# Altium integrated library TI_Logic_Specialty_Logic.IntLib: 2504 symbols (part 73 of 81)
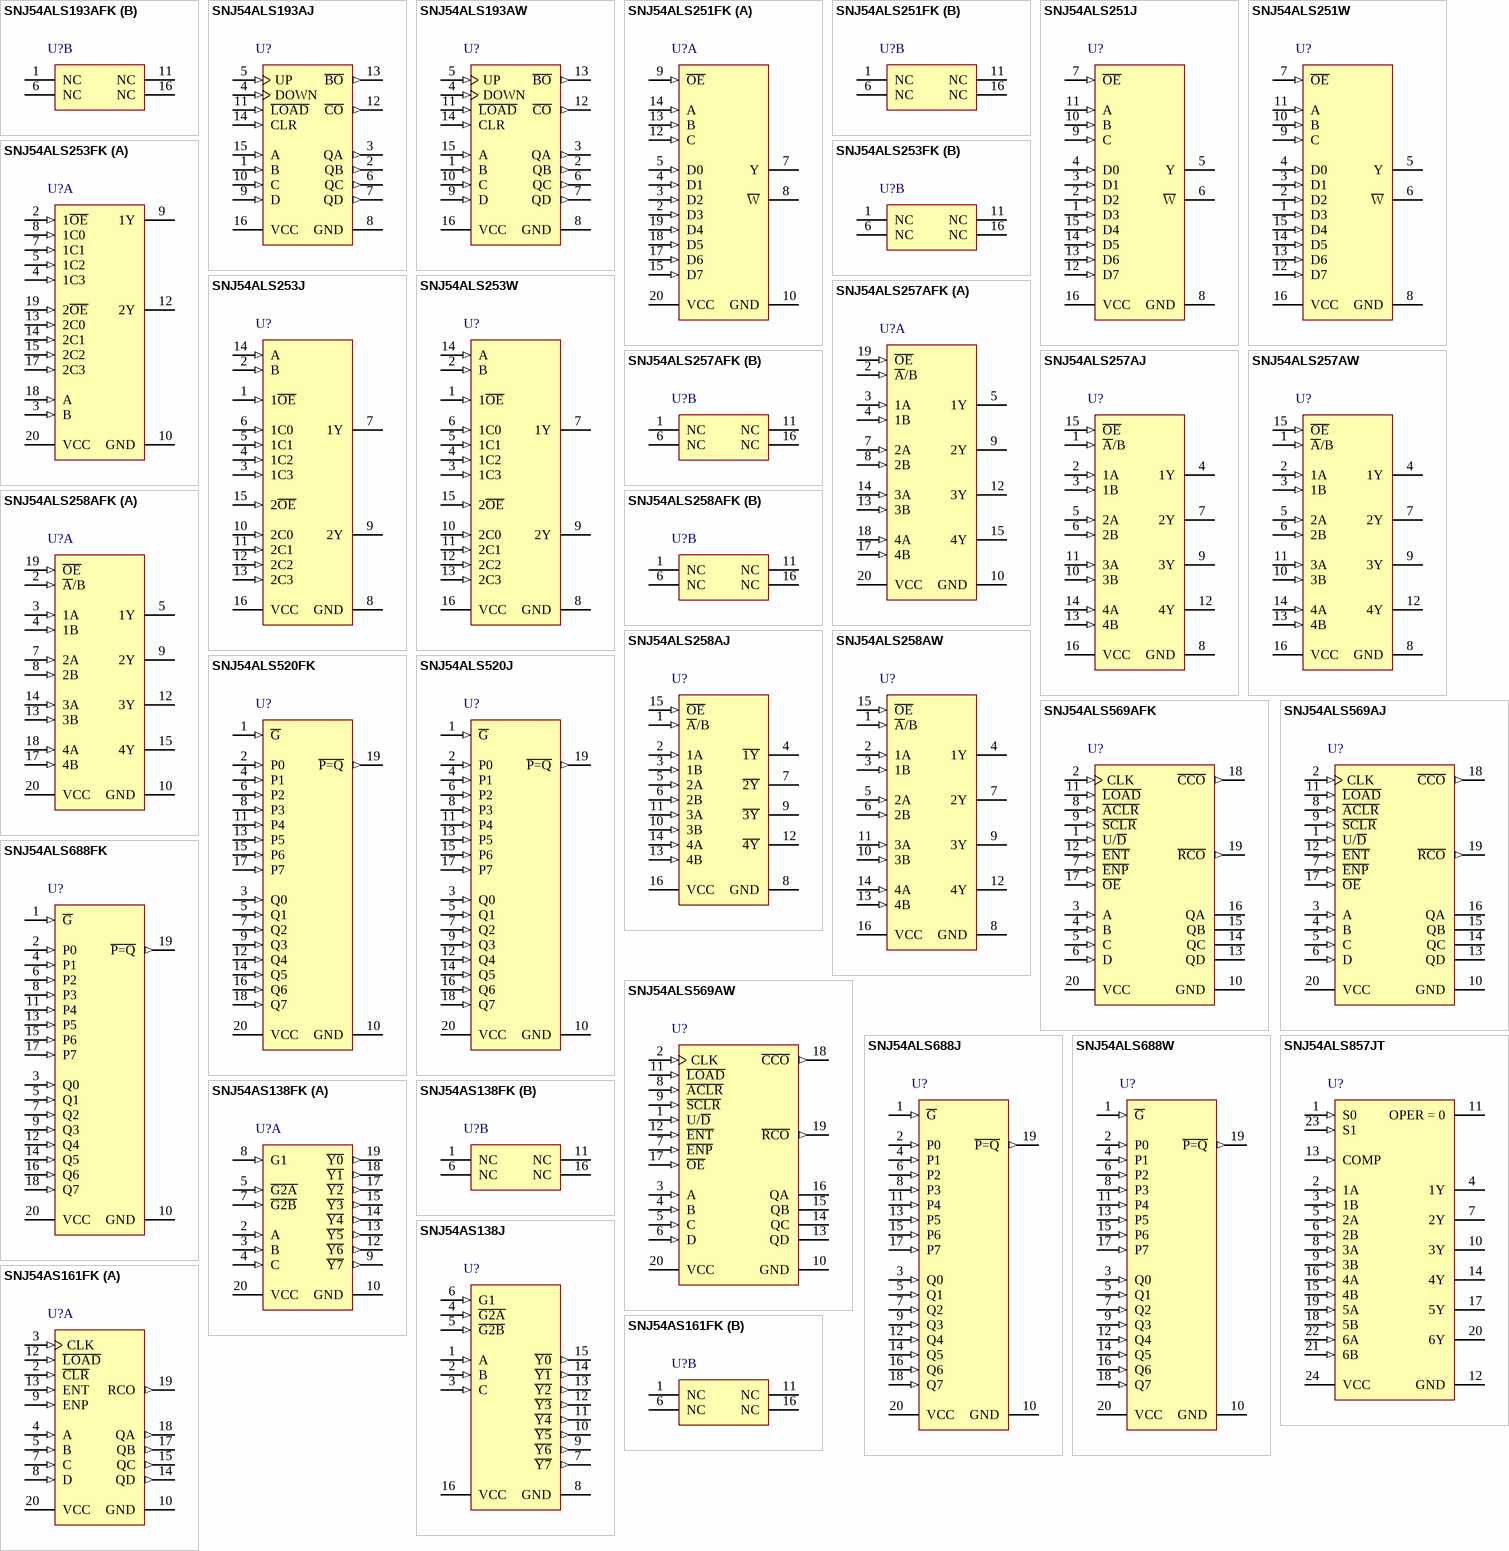
[diagram p176: symbols SNJ54ALS193AFK to SNJ54AS161FK]

## SNJ54AS161FK
designator U?
Synchronous 4-Bit Binary Counters, FK0020A, TUBE; Generic Part Number: SN54AS161; Manufacturer: Texas Instruments; PartNumber: SNJ54AS161FK; VCC(Min)(V): 4.5; VCC(Max)(V): 5.5; Inputs: 1; ICC @ Nom Voltage(Max)(mA): 53; Bits(#): 4; F @ Nom Voltage(Max)(Mhz): 125; Rating: Military; Technology Family: AS; Output Drive (IOL/IOH)(Max)(mA): 20/-2; tpd @ Nom Voltage(Max)(ns): 16.5; DatasheetVersion: SDAS276A; PackageReference: FK0020A; Function: Counter; Operating Temperature Range(C): -55 to 125; Type: Binary; Code_JEDEC: MS-004; ComponentLink1Description: Manufacturer URL; ComponentLink1URL: http://www.ti.com/; ComponentLink2Description: Datasheet; ComponentLink2URL: http://www.ti.com/lit/ds/symlink/sn54as161.pdf; ComponentLink3Description: Package Specification; ComponentLink3URL: http://www.ti.com/lit/ml/mlcc006d/mlcc006d.pdf
footprint FK0020A_N (LCC, 20-Leads, Body 8.9x8.9mm, Pitch 1.27mm, IPC Medium Density)
footprint FK0020A_M (LCC, 20-Leads, Body 8.9x8.9mm, Pitch 1.27mm, IPC Low Density)
footprint FK0020A_L (LCC, 20-Leads, Body 8.9x8.9mm, Pitch 1.27mm, IPC High Density)
part A pins: 2 ~{CLR} (in), 3 CLK (in), 4 A (in), 5 B (in), 7 C (in), 8 D (in), 9 ENP (in), 10 GND (power), 12 ~{LOAD} (in), 13 ENT (in), 14 QD (out), 15 QC (out), 17 QB (out), 18 QA (out), 19 RCO (out), 20 VCC (power)
part B pins: 1 NC, 6 NC, 11 NC, 16 NC

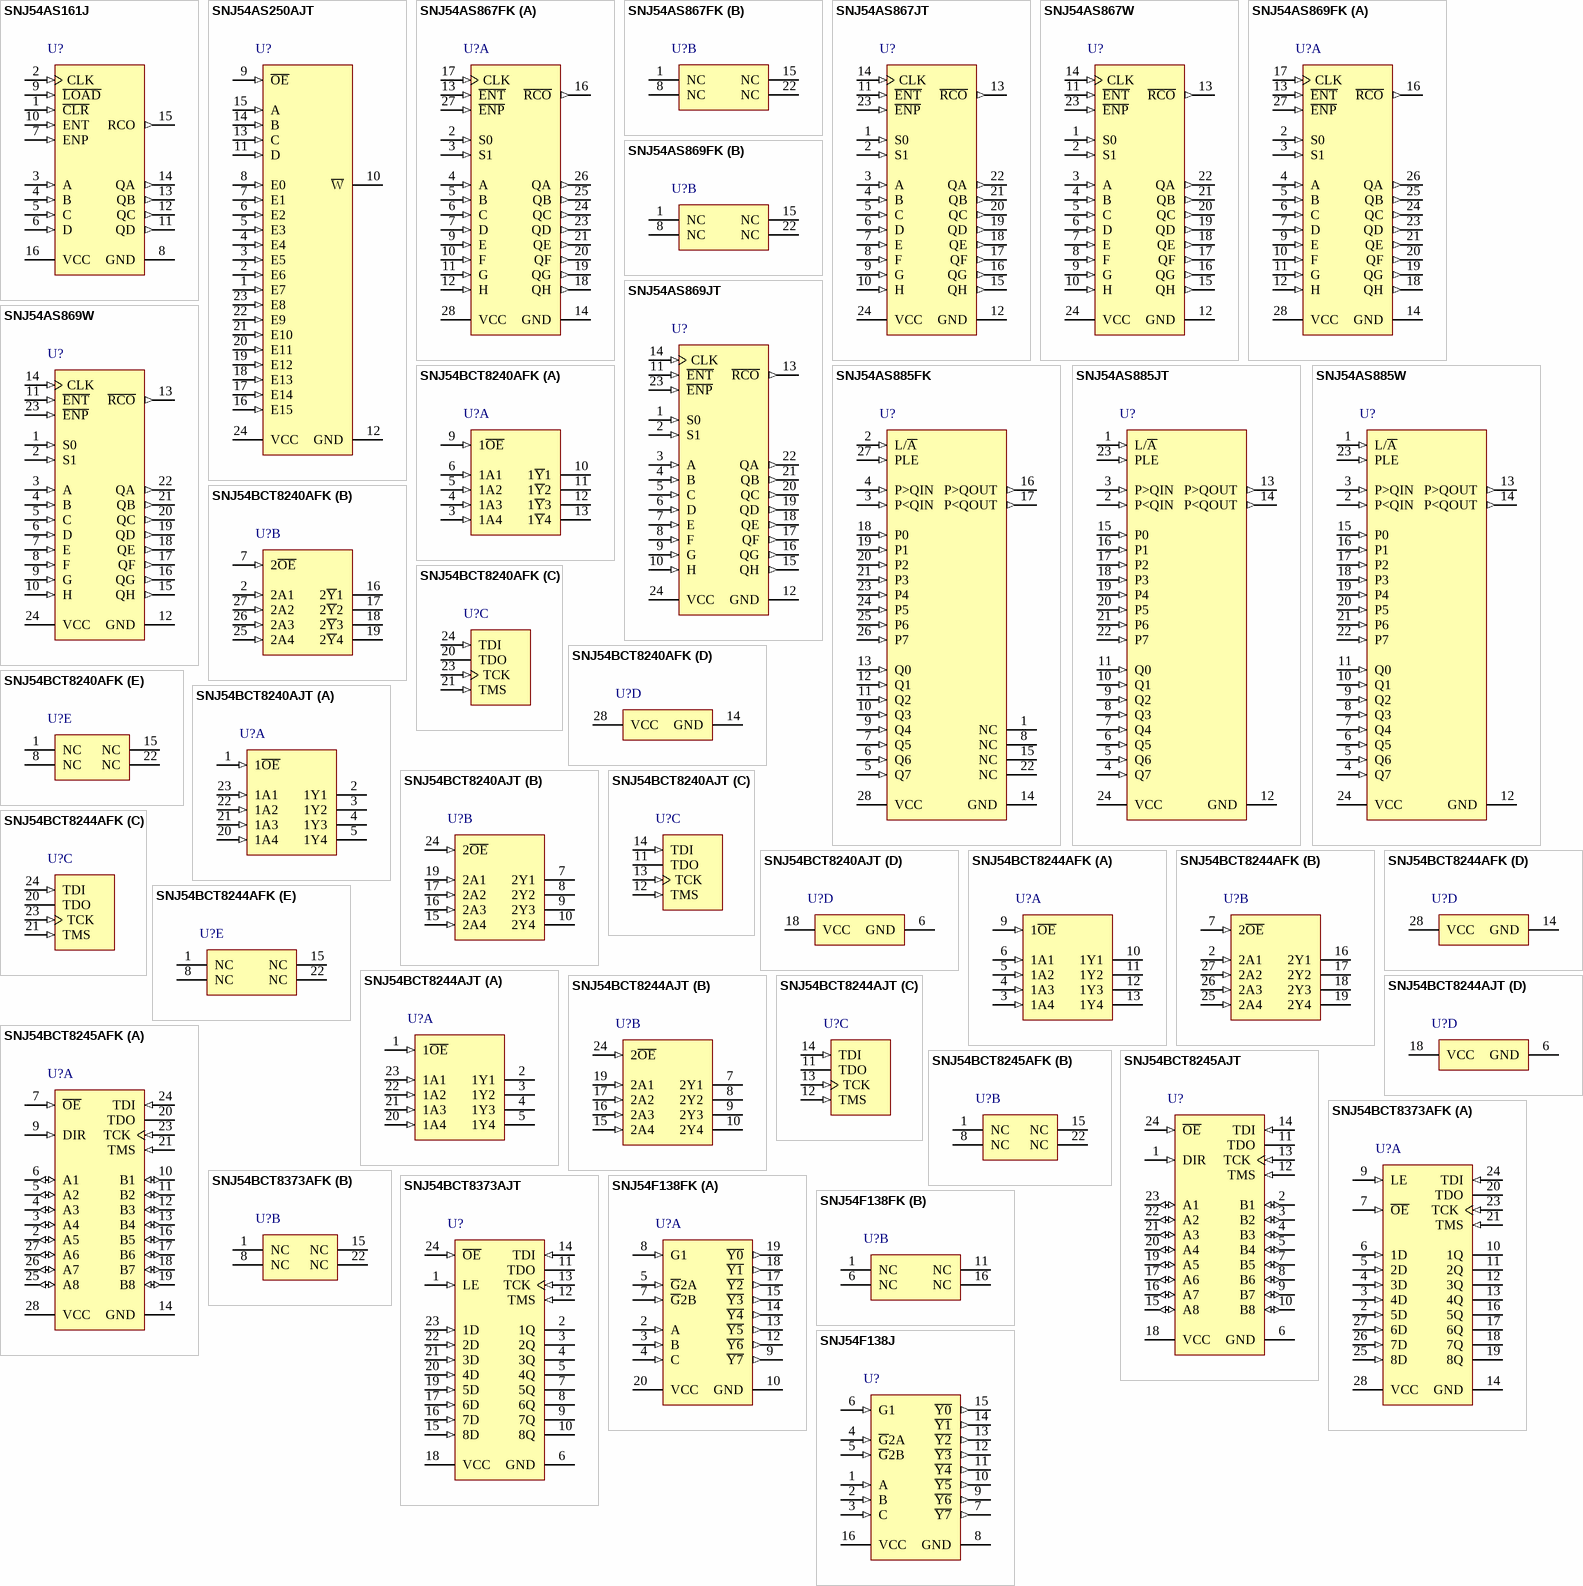
[diagram p90: symbols SNJ54AS161J to SNJ54F138J]

## SNJ54AS161J
designator U?
Synchronous 4-Bit Binary Counters, J0016A, TUBE; Generic Part Number: SN54AS161; Manufacturer: Texas Instruments; PartNumber: SNJ54AS161J; VCC(Min)(V): 4.5; VCC(Max)(V): 5.5; Inputs: 1; ICC @ Nom Voltage(Max)(mA): 53; Bits(#): 4; F @ Nom Voltage(Max)(Mhz): 125; Rating: Military; Technology Family: AS; Output Drive (IOL/IOH)(Max)(mA): 20/-2; tpd @ Nom Voltage(Max)(ns): 16.5; DatasheetVersion: SDAS276A; PackageReference: J0016A; Function: Counter; Operating Temperature Range(C): -55 to 125; Type: Binary; ComponentLink1Description: Manufacturer URL; ComponentLink1URL: http://www.ti.com/; ComponentLink2Description: Datasheet; ComponentLink2URL: http://www.ti.com/lit/ds/symlink/sn54as161.pdf; ComponentLink3Description: Package Specification; ComponentLink3URL: http://www.ti.com/lit/ml/mcer002d/mcer002d.pdf
footprint J0016A (DIP, 16-Leads, Body 21.35x7.2mm, Pitch 2.54mm)
pins: 1 ~{CLR} (in), 2 CLK (in), 3 A (in), 4 B (in), 5 C (in), 6 D (in), 7 ENP (in), 8 GND (power), 9 ~{LOAD} (in), 10 ENT (in), 11 QD (out), 12 QC (out), 13 QB (out), 14 QA (out), 15 RCO (out), 16 VCC (power)

## SNJ54AS250AJT
designator U?
1-Of-16 Data Generators/Multiplexers With 3-State Outputs, JT0024A, TUBE; Generic Part Number: SN54AS250A; Manufacturer: Texas Instruments; PartNumber: SNJ54AS250AJT; Rating: Military; Technology Family: AS; Schmitt Trigger: No; DatasheetVersion: SDAS137A; PackageReference: JT0024A; Operating Temperature Range(C): -55 to 125; Code_JEDEC: MO-058 AA; ComponentLink1Description: Manufacturer URL; ComponentLink1URL: http://www.ti.com/; ComponentLink2Description: Datasheet; ComponentLink2URL: http://www.ti.com/lit/ds/symlink/sn54as250a.pdf; ComponentLink3Description: Package Specification; ComponentLink3URL: http://www.ti.com/lit/ml/mcer004a/mcer004a.pdf
footprint JT0024A (DIP, 24-Leads, Body 7.2x32.5mm, Pitch 2.54mm)
pins: 1 E7 (in), 2 E6 (in), 3 E5 (in), 4 E4 (in), 5 E3 (in), 6 E2 (in), 7 E1 (in), 8 E0 (in), 9 ~{OE} (in), 10 ~{W} (hiz), 11 D (in), 12 GND (power), 13 C (in), 14 B (in), 15 A (in), 16 E15 (in), 17 E14 (in), 18 E13 (in), 19 E12 (in), 20 E11 (in), 21 E10 (in), 22 E9 (in), 23 E8 (in), 24 VCC (power)

## SNJ54AS867FK
designator U?
Synchronous 8-Bit Up/Down Counters, FK0028A, TUBE; Generic Part Number: SN54AS867; Manufacturer: Texas Instruments; PartNumber: SNJ54AS867FK; VCC(Min)(V): 4.5; VCC(Max)(V): 5.5; Inputs: 1; ICC @ Nom Voltage(Max)(mA): 195; Bits(#): 8; F @ Nom Voltage(Max)(Mhz): 125; Rating: Military; Technology Family: AS; Output Drive (IOL/IOH)(Max)(mA): 20/-2; tpd @ Nom Voltage(Max)(ns): 22; DatasheetVersion: SDAS115C; PackageReference: FK0028A; Function: Counter; Operating Temperature Range(C): -55 to 125; Type: Binary; Code_JEDEC: MS-004; ComponentLink1Description: Manufacturer URL; ComponentLink1URL: http://www.ti.com/; ComponentLink2Description: Datasheet; ComponentLink2URL: http://www.ti.com/lit/ds/symlink/sn54as867.pdf; ComponentLink3Description: Package Specification; ComponentLink3URL: http://www.ti.com/lit/ml/mlcc006d/mlcc006d.pdf
footprint FK0028A_N (LCC, 28-Leads, Body 11.43x11.43mm, Pitch 1.27mm, IPC Medium Density)
footprint FK0028A_M (LCC, 28-Leads, Body 11.43x11.43mm, Pitch 1.27mm, IPC Low Density)
footprint FK0028A_L (LCC, 28-Leads, Body 11.43x11.43mm, Pitch 1.27mm, IPC High Density)
part A pins: 2 S0 (in), 3 S1 (in), 4 A (in), 5 B (in), 6 C (in), 7 D (in), 9 E (in), 10 F (in), 11 G (in), 12 H (in), 13 ~{ENT} (in), 14 GND (power), 16 ~{RCO} (out), 17 CLK (in), 18 QH (out), 19 QG (out), 20 QF (out), 21 QE (out), 23 QD (out), 24 QC (out), 25 QB (out), 26 QA (out), 27 ~{ENP} (in), 28 VCC (power)
part B pins: 1 NC, 8 NC, 15 NC, 22 NC

## SNJ54AS867JT
designator U?
Synchronous 8-Bit Up/Down Counters, JT0024A, TUBE; Generic Part Number: SN54AS867; Manufacturer: Texas Instruments; PartNumber: SNJ54AS867JT; VCC(Min)(V): 4.5; VCC(Max)(V): 5.5; Inputs: 1; ICC @ Nom Voltage(Max)(mA): 195; Bits(#): 8; F @ Nom Voltage(Max)(Mhz): 125; Rating: Military; Technology Family: AS; Output Drive (IOL/IOH)(Max)(mA): 20/-2; tpd @ Nom Voltage(Max)(ns): 22; DatasheetVersion: SDAS115C; PackageReference: JT0024A; Function: Counter; Operating Temperature Range(C): -55 to 125; Type: Binary; Code_JEDEC: MO-058 AA; ComponentLink1Description: Manufacturer URL; ComponentLink1URL: http://www.ti.com/; ComponentLink2Description: Datasheet; ComponentLink2URL: http://www.ti.com/lit/ds/symlink/sn54as867.pdf; ComponentLink3Description: Package Specification; ComponentLink3URL: http://www.ti.com/lit/ml/mcer004a/mcer004a.pdf
footprint JT0024A (DIP, 24-Leads, Body 7.2x32.5mm, Pitch 2.54mm)
pins: 1 S0 (in), 2 S1 (in), 3 A (in), 4 B (in), 5 C (in), 6 D (in), 7 E (in), 8 F (in), 9 G (in), 10 H (in), 11 ~{ENT} (in), 12 GND (power), 13 ~{RCO} (out), 14 CLK (in), 15 QH (out), 16 QG (out), 17 QF (out), 18 QE (out), 19 QD (out), 20 QC (out), 21 QB (out), 22 QA (out), 23 ~{ENP} (in), 24 VCC (power)

## SNJ54AS867W
designator U?
Synchronous 8-Bit Up/Down Counters, W0024A, TUBE; Generic Part Number: SN54AS867; Manufacturer: Texas Instruments; PartNumber: SNJ54AS867W; VCC(Min)(V): 4.5; VCC(Max)(V): 5.5; Inputs: 1; ICC @ Nom Voltage(Max)(mA): 195; Bits(#): 8; F @ Nom Voltage(Max)(Mhz): 125; Rating: Military; Technology Family: AS; Output Drive (IOL/IOH)(Max)(mA): 20/-2; tpd @ Nom Voltage(Max)(ns): 22; DatasheetVersion: SDAS115C; PackageReference: W0024A; Function: Counter; Operating Temperature Range(C): -55 to 125; Type: Binary; ComponentLink1Description: Manufacturer URL; ComponentLink1URL: http://www.ti.com/; ComponentLink2Description: Datasheet; ComponentLink2URL: http://www.ti.com/lit/ds/symlink/sn54as867.pdf; ComponentLink3Description: Package Specification; ComponentLink3URL: http://www.ti.com/lit/ml/mcfp006d/mcfp006d.pdf
footprint W0024A_N (CFP, 24-Leads, Body 16.26x9.53mm, Pitch 1.27mm, IPC Medium Density)
footprint W0024A_M (CFP, 24-Leads, Body 16.26x9.53mm, Pitch 1.27mm, IPC Low Density)
footprint W0024A_L (CFP, 24-Leads, Body 16.26x9.53mm, Pitch 1.27mm, IPC High Density)
pins: 1 S0 (in), 2 S1 (in), 3 A (in), 4 B (in), 5 C (in), 6 D (in), 7 E (in), 8 F (in), 9 G (in), 10 H (in), 11 ~{ENT} (in), 12 GND (power), 13 ~{RCO} (out), 14 CLK (in), 15 QH (out), 16 QG (out), 17 QF (out), 18 QE (out), 19 QD (out), 20 QC (out), 21 QB (out), 22 QA (out), 23 ~{ENP} (in), 24 VCC (power)

## SNJ54AS869FK
designator U?
Synchronous 8-Bit Up/Down Counters, FK0028A, TUBE; Generic Part Number: SN54AS869; Manufacturer: Texas Instruments; PartNumber: SNJ54AS869FK; VCC(Min)(V): 4.5; VCC(Max)(V): 5.5; Inputs: 1; ICC @ Nom Voltage(Max)(mA): 195; Bits(#): 8; F @ Nom Voltage(Max)(Mhz): 125; Rating: Military; Technology Family: AS; Output Drive (IOL/IOH)(Max)(mA): 20/-2; tpd @ Nom Voltage(Max)(ns): 35; DatasheetVersion: SDAS115C; PackageReference: FK0028A; Function: Counter; Operating Temperature Range(C): -55 to 125; Type: Binary; Code_JEDEC: MS-004; ComponentLink1Description: Manufacturer URL; ComponentLink1URL: http://www.ti.com/; ComponentLink2Description: Datasheet; ComponentLink2URL: http://www.ti.com/lit/ds/symlink/sn54as869.pdf; ComponentLink3Description: Package Specification; ComponentLink3URL: http://www.ti.com/lit/ml/mlcc006d/mlcc006d.pdf
footprint FK0028A_N (LCC, 28-Leads, Body 11.43x11.43mm, Pitch 1.27mm, IPC Medium Density)
footprint FK0028A_M (LCC, 28-Leads, Body 11.43x11.43mm, Pitch 1.27mm, IPC Low Density)
footprint FK0028A_L (LCC, 28-Leads, Body 11.43x11.43mm, Pitch 1.27mm, IPC High Density)
part A pins: 2 S0 (in), 3 S1 (in), 4 A (in), 5 B (in), 6 C (in), 7 D (in), 9 E (in), 10 F (in), 11 G (in), 12 H (in), 13 ~{ENT} (in), 14 GND (power), 16 ~{RCO} (out), 17 CLK (in), 18 QH (out), 19 QG (out), 20 QF (out), 21 QE (out), 23 QD (out), 24 QC (out), 25 QB (out), 26 QA (out), 27 ~{ENP} (in), 28 VCC (power)
part B pins: 1 NC, 8 NC, 15 NC, 22 NC

## SNJ54AS869JT
designator U?
Synchronous 8-Bit Up/Down Counters, JT0024A, TUBE; Generic Part Number: SN54AS869; Manufacturer: Texas Instruments; PartNumber: SNJ54AS869JT; VCC(Min)(V): 4.5; VCC(Max)(V): 5.5; Inputs: 1; ICC @ Nom Voltage(Max)(mA): 195; Bits(#): 8; F @ Nom Voltage(Max)(Mhz): 125; Rating: Military; Technology Family: AS; Output Drive (IOL/IOH)(Max)(mA): 20/-2; tpd @ Nom Voltage(Max)(ns): 35; DatasheetVersion: SDAS115C; PackageReference: JT0024A; Function: Counter; Operating Temperature Range(C): -55 to 125; Type: Binary; Code_JEDEC: MO-058 AA; ComponentLink1Description: Manufacturer URL; ComponentLink1URL: http://www.ti.com/; ComponentLink2Description: Datasheet; ComponentLink2URL: http://www.ti.com/lit/ds/symlink/sn54as869.pdf; ComponentLink3Description: Package Specification; ComponentLink3URL: http://www.ti.com/lit/ml/mcer004a/mcer004a.pdf
footprint JT0024A (DIP, 24-Leads, Body 7.2x32.5mm, Pitch 2.54mm)
pins: 1 S0 (in), 2 S1 (in), 3 A (in), 4 B (in), 5 C (in), 6 D (in), 7 E (in), 8 F (in), 9 G (in), 10 H (in), 11 ~{ENT} (in), 12 GND (power), 13 ~{RCO} (out), 14 CLK (in), 15 QH (out), 16 QG (out), 17 QF (out), 18 QE (out), 19 QD (out), 20 QC (out), 21 QB (out), 22 QA (out), 23 ~{ENP} (in), 24 VCC (power)

## SNJ54AS869W
designator U?
Synchronous 8-Bit Up/Down Counters, W0024A, TUBE; Generic Part Number: SN54AS869; Manufacturer: Texas Instruments; PartNumber: SNJ54AS869W; VCC(Min)(V): 4.5; VCC(Max)(V): 5.5; Inputs: 1; ICC @ Nom Voltage(Max)(mA): 195; Bits(#): 8; F @ Nom Voltage(Max)(Mhz): 125; Rating: Military; Technology Family: AS; Output Drive (IOL/IOH)(Max)(mA): 20/-2; tpd @ Nom Voltage(Max)(ns): 35; DatasheetVersion: SDAS115C; PackageReference: W0024A; Function: Counter; Operating Temperature Range(C): -55 to 125; Type: Binary; ComponentLink1Description: Manufacturer URL; ComponentLink1URL: http://www.ti.com/; ComponentLink2Description: Datasheet; ComponentLink2URL: http://www.ti.com/lit/ds/symlink/sn54as869.pdf; ComponentLink3Description: Package Specification; ComponentLink3URL: http://www.ti.com/lit/ml/mcfp006d/mcfp006d.pdf
footprint W0024A_N (CFP, 24-Leads, Body 16.26x9.53mm, Pitch 1.27mm, IPC Medium Density)
footprint W0024A_M (CFP, 24-Leads, Body 16.26x9.53mm, Pitch 1.27mm, IPC Low Density)
footprint W0024A_L (CFP, 24-Leads, Body 16.26x9.53mm, Pitch 1.27mm, IPC High Density)
pins: 1 S0 (in), 2 S1 (in), 3 A (in), 4 B (in), 5 C (in), 6 D (in), 7 E (in), 8 F (in), 9 G (in), 10 H (in), 11 ~{ENT} (in), 12 GND (power), 13 ~{RCO} (out), 14 CLK (in), 15 QH (out), 16 QG (out), 17 QF (out), 18 QE (out), 19 QD (out), 20 QC (out), 21 QB (out), 22 QA (out), 23 ~{ENP} (in), 24 VCC (power)

## SNJ54AS885FK
designator U?
8-Bit Magnitude Comparators, FK0028A, TUBE; Generic Part Number: SN54AS885; Manufacturer: Texas Instruments; PartNumber: SNJ54AS885FK; VCC(Min)(V): 4.5; VCC(Max)(V): 5.5; Output Type: TTL; ICC @ Nom Voltage(Max)(mA): 210; Bits(#): 8; Rating: Military; Technology Family: AS; Output Drive (IOL/IOH)(Max)(mA): 20/-2; tpd @ Nom Voltage(Max)(ns): 17.5; DatasheetVersion: SDAS236A; PackageReference: FK0028A; Input Type: TTL; Operating Temperature Range(C): -55 to 125; Code_JEDEC: MS-004; ComponentLink1Description: Manufacturer URL; ComponentLink1URL: http://www.ti.com/; ComponentLink2Description: Datasheet; ComponentLink2URL: http://www.ti.com/lit/ds/symlink/sn54as885.pdf; ComponentLink3Description: Package Specification; ComponentLink3URL: http://www.ti.com/lit/ml/mlcc006d/mlcc006d.pdf
footprint FD0028A_N (LCC, 28-Leads, Body 11.43x11.43mm, Pitch 1.27mm, IPC Medium Density)
footprint FD0028A_M (LCC, 28-Leads, Body 11.43x11.43mm, Pitch 1.27mm, IPC Low Density)
footprint FD0028A_L (LCC, 28-Leads, Body 11.43x11.43mm, Pitch 1.27mm, IPC High Density)
pins: 1 NC, 2 L/~{A} (in), 3 P<QIN (in), 4 P>QIN (in), 5 Q7 (in), 6 Q6 (in), 7 Q5 (in), 8 NC, 9 Q4 (in), 10 Q3 (in), 11 Q2 (in), 12 Q1 (in), 13 Q0 (in), 14 GND (power), 15 NC, 16 P>QOUT (out), 17 P<QOUT (out), 18 P0 (in), 19 P1 (in), 20 P2 (in), 21 P3 (in), 22 NC, 23 P4 (in), 24 P5 (in), 25 P6 (in), 26 P7 (in), 27 PLE (in), 28 VCC (power)

## SNJ54AS885JT
designator U?
8-Bit Magnitude Comparators, JT0024A, TUBE; Generic Part Number: SN54AS885; Manufacturer: Texas Instruments; PartNumber: SNJ54AS885JT; VCC(Min)(V): 4.5; VCC(Max)(V): 5.5; Output Type: TTL; ICC @ Nom Voltage(Max)(mA): 210; Bits(#): 8; Rating: Military; Technology Family: AS; Output Drive (IOL/IOH)(Max)(mA): 20/-2; tpd @ Nom Voltage(Max)(ns): 17.5; DatasheetVersion: SDAS236A; PackageReference: JT0024A; Input Type: TTL; Operating Temperature Range(C): -55 to 125; ComponentLink1Description: Manufacturer URL; ComponentLink1URL: http://www.ti.com/; ComponentLink2Description: Datasheet; ComponentLink2URL: http://www.ti.com/lit/ds/symlink/sn54as885.pdf
footprint JT0024A (DIP, 24-Leads, Body 7.2x32.5mm, Pitch 2.54mm)
pins: 1 L/~{A} (in), 2 P<QIN (in), 3 P>QIN (in), 4 Q7 (in), 5 Q6 (in), 6 Q5 (in), 7 Q4 (in), 8 Q3 (in), 9 Q2 (in), 10 Q1 (in), 11 Q0 (in), 12 GND (power), 13 P>QOUT (out), 14 P<QOUT (out), 15 P0 (in), 16 P1 (in), 17 P2 (in), 18 P3 (in), 19 P4 (in), 20 P5 (in), 21 P6 (in), 22 P7 (in), 23 PLE (in), 24 VCC (power)

## SNJ54AS885W
designator U?
8-Bit Magnitude Comparators, W0024A, TUBE; Generic Part Number: SN54AS885; Manufacturer: Texas Instruments; PartNumber: SNJ54AS885W; VCC(Min)(V): 4.5; VCC(Max)(V): 5.5; Output Type: TTL; ICC @ Nom Voltage(Max)(mA): 210; Bits(#): 8; Rating: Military; Technology Family: AS; Output Drive (IOL/IOH)(Max)(mA): 20/-2; tpd @ Nom Voltage(Max)(ns): 17.5; DatasheetVersion: SDAS236A; PackageReference: W0024A; Input Type: TTL; Operating Temperature Range(C): -55 to 125; ComponentLink1Description: Manufacturer URL; ComponentLink1URL: http://www.ti.com/; ComponentLink2Description: Datasheet; ComponentLink2URL: http://www.ti.com/lit/ds/symlink/sn54as885.pdf
footprint W0024A_N (CFP, 24-Leads, Body 16.26x9.53mm, Pitch 1.27mm, IPC Medium Density)
footprint W0024A_M (CFP, 24-Leads, Body 16.26x9.53mm, Pitch 1.27mm, IPC Low Density)
footprint W0024A_L (CFP, 24-Leads, Body 16.26x9.53mm, Pitch 1.27mm, IPC High Density)
pins: 1 L/~{A} (in), 2 P<QIN (in), 3 P>QIN (in), 4 Q7 (in), 5 Q6 (in), 6 Q5 (in), 7 Q4 (in), 8 Q3 (in), 9 Q2 (in), 10 Q1 (in), 11 Q0 (in), 12 GND (power), 13 P>QOUT (out), 14 P<QOUT (out), 15 P0 (in), 16 P1 (in), 17 P2 (in), 18 P3 (in), 19 P4 (in), 20 P5 (in), 21 P6 (in), 22 P7 (in), 23 PLE (in), 24 VCC (power)

## SNJ54BCT8240AFK
designator U?
Scan Test Devices With Octal Buffers, FK0028A, TUBE; Generic Part Number: SN54BCT8240A; Manufacturer: Texas Instruments; PartNumber: SNJ54BCT8240AFK; VCC(Min)(V): 4.5; VCC(Max)(V): 5.5; Output Type: TTL; ICC @ Nom Voltage(Max)(mA): 52; Bits(#): 8; Rating: Military; Technology Family: BCT; Output Drive (IOL/IOH)(Max)(mA): 64/-15; Output Logic: Inverted; tpd @ Nom Voltage(Max)(ns): 9; DatasheetVersion: SCBS067E; PackageReference: FK0028A; Input Type: TTL; Operating Temperature Range(C): -55 to 125; Code_JEDEC: MS-004; ComponentLink1Description: Manufacturer URL; ComponentLink1URL: http://www.ti.com/; ComponentLink2Description: Datasheet; ComponentLink2URL: http://www.ti.com/lit/ds/symlink/sn54bct8240a.pdf; ComponentLink3Description: Package Specification; ComponentLink3URL: http://www.ti.com/lit/ml/mlcc006d/mlcc006d.pdf
footprint FD0028A_N (LCC, 28-Leads, Body 11.43x11.43mm, Pitch 1.27mm, IPC Medium Density)
footprint FD0028A_M (LCC, 28-Leads, Body 11.43x11.43mm, Pitch 1.27mm, IPC Low Density)
footprint FD0028A_L (LCC, 28-Leads, Body 11.43x11.43mm, Pitch 1.27mm, IPC High Density)
part A pins: 3 1A4 (in) "Normal-function data inputs. See function table for normal-mode logic. Internal pullups force these inputs to a high level if left unconnected.", 4 1A3 (in) "Normal-function data inputs. See function table for normal-mode logic. Internal pullups force these inputs to a high level if left unconnected.", 5 1A2 (in) "Normal-function data inputs. See function table for normal-mode logic. Internal pullups force these inputs to a high level if left unconnected.", 6 1A1 (in) "Normal-function data inputs. See function table for normal-mode logic. Internal pullups force these inputs to a high level if left unconnected.", 9 1~{OE} (in) "Normal-function output-enable inputs. See function table for normal-mode logic. Internal pullups force these inputs to a high level if left unconnected.", 10 1~{Y}1 (hiz) "Normal-function data outputs. See function table for normal-mode logic.", 11 1~{Y}2 (hiz) "Normal-function data outputs. See function table for normal-mode logic.", 12 1~{Y}3 (hiz) "Normal-function data outputs. See function table for normal-mode logic.", 13 1~{Y}4 (hiz) "Normal-function data outputs. See function table for normal-mode logic."
part B pins: 2 2A1 (in) "Normal-function data inputs. See function table for normal-mode logic. Internal pullups force these inputs to a high level if left unconnected.", 7 2~{OE} (in) "Normal-function output-enable inputs. See function table for normal-mode logic. Internal pullups force these inputs to a high level if left unconnected.", 16 2~{Y}1 (hiz) "Normal-function data outputs. See function table for normal-mode logic.", 17 2~{Y}2 (hiz) "Normal-function data outputs. See function table for normal-mode logic.", 18 2~{Y}3 (hiz) "Normal-function data outputs. See function table for normal-mode logic.", 19 2~{Y}4 (hiz) "Normal-function data outputs. See function table for normal-mode logic.", 25 2A4 (in) "Normal-function data inputs. See function table for normal-mode logic. Internal pullups force these inputs to a high level if left unconnected.", 26 2A3 (in) "Normal-function data inputs. See function table for normal-mode logic. Internal pullups force these inputs to a high level if left unconnected.", 27 2A2 (in) "Normal-function data inputs. See function table for normal-mode logic. Internal pullups force these inputs to a high level if left unconnected."
part C pins: 20 TDO (hiz) "Test data output. One of four terminals required by IEEE Standard 1149.1-1990. TDO is the serial output for shifting data through the instruction register or selected data register. An internal pullup forces TDO to a high (See Datasheet)", 21 TMS (in) "Test mode select. One of four terminals required by IEEE Standard 1149.1-1990. TMS directs the device through its TAP-controller states. An internal pullup forces TMS to a high level if left unconnected. TMS also provides (See Datasheet)", 23 TCK (in) "Test clock. One of four terminals required by IEEE Standard 1149.1-1990. Test operations of the device are synchronous to TCK. Data is captured on the rising edge of TCK and outputs change on the falling edge of TCK. An (See Datasheet)", 24 TDI (in) "Test data input. One of four terminals required by IEEE Standard 1149.1-1990. TDI is the serial input for shifting data through the instruction register or selected data register. An internal pullup forces TDI to a high (See Datasheet)"
part D pins: 14 GND (power) "Ground", 28 VCC (power) "Supply voltage"
part E pins: 1 NC, 8 NC, 15 NC, 22 NC

## SNJ54BCT8240AJT
designator U?
Scan Test Devices With Octal Buffers, JT0024A, TUBE; Generic Part Number: SN54BCT8240A; Manufacturer: Texas Instruments; PartNumber: SNJ54BCT8240AJT; VCC(Min)(V): 4.5; VCC(Max)(V): 5.5; Output Type: TTL; ICC @ Nom Voltage(Max)(mA): 52; Bits(#): 8; Rating: Military; Technology Family: BCT; Output Drive (IOL/IOH)(Max)(mA): 64/-15; Output Logic: Inverted; tpd @ Nom Voltage(Max)(ns): 9; DatasheetVersion: SCBS067E; PackageReference: JT0024A; Input Type: TTL; Operating Temperature Range(C): -55 to 125; ComponentLink1Description: Manufacturer URL; ComponentLink1URL: http://www.ti.com/; ComponentLink2Description: Datasheet; ComponentLink2URL: http://www.ti.com/lit/ds/symlink/sn54bct8240a.pdf
footprint JT0024A (DIP, 24-Leads, Body 7.2x32.5mm, Pitch 2.54mm)
part A pins: 1 1~{OE} (in) "Normal-function output-enable inputs. See function table for normal-mode logic. Internal pullups force these inputs high if left unconnected.", 2 1Y1 (hiz) "Normal-function data outputs. See function table for normal-mode logic.", 3 1Y2 (hiz) "Normal-function data outputs. See function table for normal-mode logic.", 4 1Y3 (hiz) "Normal-function data outputs. See function table for normal-mode logic.", 5 1Y4 (hiz) "Normal-function data outputs. See function table for normal-mode logic.", 20 1A4 (in) "Normal-function data inputs. See function table for normal-mode logic. Internal pullups force these inputs high if left unconnected.", 21 1A3 (in) "Normal-function data inputs. See function table for normal-mode logic. Internal pullups force these inputs high if left unconnected.", 22 1A2 (in) "Normal-function data inputs. See function table for normal-mode logic. Internal pullups force these inputs high if left unconnected.", 23 1A1 (in) "Normal-function data inputs. See function table for normal-mode logic. Internal pullups force these inputs high if left unconnected."
part B pins: 7 2Y1 (hiz) "Normal-function data outputs. See function table for normal-mode logic.", 8 2Y2 (hiz) "Normal-function data outputs. See function table for normal-mode logic.", 9 2Y3 (hiz) "Normal-function data outputs. See function table for normal-mode logic.", 10 2Y4 (hiz) "Normal-function data outputs. See function table for normal-mode logic.", 15 2A4 (in) "Normal-function data inputs. See function table for normal-mode logic. Internal pullups force these inputs high if left unconnected.", 16 2A3 (in) "Normal-function data inputs. See function table for normal-mode logic. Internal pullups force these inputs high if left unconnected.", 17 2A2 (in) "Normal-function data inputs. See function table for normal-mode logic. Internal pullups force these inputs high if left unconnected.", 19 2A1 (in) "Normal-function data inputs. See function table for normal-mode logic. Internal pullups force these inputs high if left unconnected.", 24 2~{OE} (in) "Normal-function output-enable inputs. See function table for normal-mode logic. Internal pullups force these inputs high if left unconnected."
part C pins: 11 TDO (hiz) "Test data output. One of four terminals required by IEEE Standard 1149.1-1990. TDO is the serial output for shifting data through the instruction register or selected data register. An internal pullup forces TDO to a high (See Datasheet)", 12 TMS (in) "Test mode select. One of four terminals required by IEEE Standard 1149.1-1990. TMS directs the device through its TAP controller states. An internal pullup forces TMS to a high level if left unconnected. TMS also provides (See Datasheet)", 13 TCK (in) "Test clock. One of four terminals required by IEEE Standard 1149.1-1990. Test operations of the device are synchronous to TCK. Data is captured on the rising edge of TCK and outputs change on the falling edge of TCK. An (See Datasheet)", 14 TDI (in) "Test data input. One of four terminals required by IEEE Standard 1149.1-1990. TDI is the serial input for shifting data through the instruction register or selected data register. An internal pullup forces TDI to a high (See Datasheet)"
part D pins: 6 GND (power) "Ground", 18 VCC (power) "Supply voltage"

## SNJ54BCT8244AFK
designator U?
Scan Test Devices With Octal Buffers, FK0028A, TUBE; Generic Part Number: SN54BCT8244A; Manufacturer: Texas Instruments; PartNumber: SNJ54BCT8244AFK; VCC(Min)(V): 4.5; VCC(Max)(V): 5.5; Output Type: TTL; ICC @ Nom Voltage(Max)(mA): 52; Bits(#): 8; Rating: Military; Technology Family: BCT; Output Drive (IOL/IOH)(Max)(mA): 64/-15; Output Logic: True; tpd @ Nom Voltage(Max)(ns): 8.5; DatasheetVersion: SCBS042E; PackageReference: FK0028A; Input Type: TTL; Operating Temperature Range(C): -55 to 125; Code_JEDEC: MS-004; ComponentLink1Description: Manufacturer URL; ComponentLink1URL: http://www.ti.com/; ComponentLink2Description: Datasheet; ComponentLink2URL: http://www.ti.com/lit/ds/symlink/sn54bct8244a.pdf; ComponentLink3Description: Package Specification; ComponentLink3URL: http://www.ti.com/lit/ml/mlcc006d/mlcc006d.pdf
footprint FD0028A_N (LCC, 28-Leads, Body 11.43x11.43mm, Pitch 1.27mm, IPC Medium Density)
footprint FD0028A_M (LCC, 28-Leads, Body 11.43x11.43mm, Pitch 1.27mm, IPC Low Density)
footprint FD0028A_L (LCC, 28-Leads, Body 11.43x11.43mm, Pitch 1.27mm, IPC High Density)
part A pins: 3 1A4 (in) "Normal-function data inputs. See function table for normal-mode logic. Internal pullups force these inputs high if left unconnected.", 4 1A3 (in) "Normal-function data inputs. See function table for normal-mode logic. Internal pullups force these inputs high if left unconnected.", 5 1A2 (in) "Normal-function data inputs. See function table for normal-mode logic. Internal pullups force these inputs high if left unconnected.", 6 1A1 (in) "Normal-function data inputs. See function table for normal-mode logic. Internal pullups force these inputs high if left unconnected.", 9 1~{OE} (in) "Normal-function output-enable inputs. See function table for normal-mode logic. Internal pullups force these inputs high if left unconnected.", 10 1Y1 (hiz) "Normal-function data outputs. See function table for normal-mode logic.", 11 1Y2 (hiz) "Normal-function data outputs. See function table for normal-mode logic.", 12 1Y3 (hiz) "Normal-function data outputs. See function table for normal-mode logic.", 13 1Y4 (hiz) "Normal-function data outputs. See function table for normal-mode logic."
part B pins: 2 2A1 (in) "Normal-function data inputs. See function table for normal-mode logic. Internal pullups force these inputs high if left unconnected.", 7 2~{OE} (in) "Normal-function output-enable inputs. See function table for normal-mode logic. Internal pullups force these inputs high if left unconnected.", 16 2Y1 (hiz) "Normal-function data outputs. See function table for normal-mode logic.", 17 2Y2 (hiz) "Normal-function data outputs. See function table for normal-mode logic.", 18 2Y3 (hiz) "Normal-function data outputs. See function table for normal-mode logic.", 19 2Y4 (hiz) "Normal-function data outputs. See function table for normal-mode logic.", 25 2A4 (in) "Normal-function data inputs. See function table for normal-mode logic. Internal pullups force these inputs high if left unconnected.", 26 2A3 (in) "Normal-function data inputs. See function table for normal-mode logic. Internal pullups force these inputs high if left unconnected.", 27 2A2 (in) "Normal-function data inputs. See function table for normal-mode logic. Internal pullups force these inputs high if left unconnected."
part C pins: 20 TDO (hiz) "Test data output. One of four terminals required by IEEE Standard 1149.1-1990. TDO is the serial output for shifting data through the instruction register or selected data register. An internal pullup forces TDO to a high (See Datasheet)", 21 TMS (in) "Test mode select. One of four terminals required by IEEE Standard 1149.1-1990. TMS directs the device through its TAP controller states. An internal pullup forces TMS to a high level if left unconnected. TMS also provides (See Datasheet)", 23 TCK (in) "Test clock. One of four terminals required by IEEE Standard 1149.1-1990. Test operations of the device are synchronous to TCK. Data is captured on the rising edge of TCK and outputs change on the falling edge of TCK. An (See Datasheet)", 24 TDI (in) "Test data input. One of four terminals required by IEEE Standard 1149.1-1990. TDI is the serial input for shifting data through the instruction register or selected data register. An internal pullup forces TDI to a high (See Datasheet)"
part D pins: 14 GND (power) "Ground", 28 VCC (power) "Supply voltage"
part E pins: 1 NC, 8 NC, 15 NC, 22 NC

## SNJ54BCT8244AJT
designator U?
Scan Test Devices With Octal Buffers, JT0024A, TUBE; Generic Part Number: SN54BCT8244A; Manufacturer: Texas Instruments; PartNumber: SNJ54BCT8244AJT; VCC(Min)(V): 4.5; VCC(Max)(V): 5.5; Output Type: TTL; ICC @ Nom Voltage(Max)(mA): 52; Bits(#): 8; Rating: Military; Technology Family: BCT; Output Drive (IOL/IOH)(Max)(mA): 64/-15; Output Logic: True; tpd @ Nom Voltage(Max)(ns): 8.5; DatasheetVersion: SCBS042E; PackageReference: JT0024A; Input Type: TTL; Operating Temperature Range(C): -55 to 125; ComponentLink1Description: Manufacturer URL; ComponentLink1URL: http://www.ti.com/; ComponentLink2Description: Datasheet; ComponentLink2URL: http://www.ti.com/lit/ds/symlink/sn54bct8244a.pdf
footprint JT0024A (DIP, 24-Leads, Body 7.2x32.5mm, Pitch 2.54mm)
part A pins: 1 1~{OE} (in) "Normal-function output-enable inputs. See function table for normal-mode logic. Internal pullups force these inputs high if left unconnected.", 2 1Y1 (hiz) "Normal-function data outputs. See function table for normal-mode logic.", 3 1Y2 (hiz) "Normal-function data outputs. See function table for normal-mode logic.", 4 1Y3 (hiz) "Normal-function data outputs. See function table for normal-mode logic.", 5 1Y4 (hiz) "Normal-function data outputs. See function table for normal-mode logic.", 20 1A4 (in) "Normal-function data inputs. See function table for normal-mode logic. Internal pullups force these inputs high if left unconnected.", 21 1A3 (in) "Normal-function data inputs. See function table for normal-mode logic. Internal pullups force these inputs high if left unconnected.", 22 1A2 (in) "Normal-function data inputs. See function table for normal-mode logic. Internal pullups force these inputs high if left unconnected.", 23 1A1 (in) "Normal-function data inputs. See function table for normal-mode logic. Internal pullups force these inputs high if left unconnected."
part B pins: 7 2Y1 (hiz) "Normal-function data outputs. See function table for normal-mode logic.", 8 2Y2 (hiz) "Normal-function data outputs. See function table for normal-mode logic.", 9 2Y3 (hiz) "Normal-function data outputs. See function table for normal-mode logic.", 10 2Y4 (hiz) "Normal-function data outputs. See function table for normal-mode logic.", 15 2A4 (in) "Normal-function data inputs. See function table for normal-mode logic. Internal pullups force these inputs high if left unconnected.", 16 2A3 (in) "Normal-function data inputs. See function table for normal-mode logic. Internal pullups force these inputs high if left unconnected.", 17 2A2 (in) "Normal-function data inputs. See function table for normal-mode logic. Internal pullups force these inputs high if left unconnected.", 19 2A1 (in) "Normal-function data inputs. See function table for normal-mode logic. Internal pullups force these inputs high if left unconnected.", 24 2~{OE} (in) "Normal-function output-enable inputs. See function table for normal-mode logic. Internal pullups force these inputs high if left unconnected."
part C pins: 11 TDO (hiz) "Test data output. One of four terminals required by IEEE Standard 1149.1-1990. TDO is the serial output for shifting data through the instruction register or selected data register. An internal pullup forces TDO to a high (See Datasheet)", 12 TMS (in) "Test mode select. One of four terminals required by IEEE Standard 1149.1-1990. TMS directs the device through its TAP controller states. An internal pullup forces TMS to a high level if left unconnected. TMS also provides (See Datasheet)", 13 TCK (in) "Test clock. One of four terminals required by IEEE Standard 1149.1-1990. Test operations of the device are synchronous to TCK. Data is captured on the rising edge of TCK and outputs change on the falling edge of TCK. An (See Datasheet)", 14 TDI (in) "Test data input. One of four terminals required by IEEE Standard 1149.1-1990. TDI is the serial input for shifting data through the instruction register or selected data register. An internal pullup forces TDI to a high (See Datasheet)"
part D pins: 6 GND (power) "Ground", 18 VCC (power) "Supply voltage"

## SNJ54BCT8245AFK
designator U?
Scan Test Devices With Octal Bus Transceivers, FK0028A, TUBE; Generic Part Number: SN54BCT8245A; Manufacturer: Texas Instruments; PartNumber: SNJ54BCT8245AFK; VCC(Min)(V): 4.5; VCC(Max)(V): 5.5; Output Type: TTL; ICC @ Nom Voltage(Max)(mA): 52; Bits(#): 8; Rating: Military; Technology Family: BCT; Output Drive (IOL/IOH)(Max)(mA): 64/-15; Output Logic: True; tpd @ Nom Voltage(Max)(ns): 10; DatasheetVersion: SCBS043E; PackageReference: FK0028A; Input Type: TTL; Operating Temperature Range(C): -55 to 125; Code_JEDEC: MS-004; ComponentLink1Description: Manufacturer URL; ComponentLink1URL: http://www.ti.com/; ComponentLink2Description: Datasheet; ComponentLink2URL: http://www.ti.com/lit/ds/symlink/sn54bct8245a.pdf; ComponentLink3Description: Package Specification; ComponentLink3URL: http://www.ti.com/lit/ml/mlcc006d/mlcc006d.pdf
footprint FD0028A_N (LCC, 28-Leads, Body 11.43x11.43mm, Pitch 1.27mm, IPC Medium Density)
footprint FD0028A_M (LCC, 28-Leads, Body 11.43x11.43mm, Pitch 1.27mm, IPC Low Density)
footprint FD0028A_L (LCC, 28-Leads, Body 11.43x11.43mm, Pitch 1.27mm, IPC High Density)
part A pins: 2 A5 (io) "Normal-function A-bus I/O ports. See function table for normal-mode logic.", 3 A4 (io) "Normal-function A-bus I/O ports. See function table for normal-mode logic.", 4 A3 (io) "Normal-function A-bus I/O ports. See function table for normal-mode logic.", 5 A2 (io) "Normal-function A-bus I/O ports. See function table for normal-mode logic.", 6 A1 (io) "Normal-function A-bus I/O ports. See function table for normal-mode logic.", 7 ~{OE} (in) "Normal-function output-enable input. See function table for normal-mode logic.", 9 DIR (in) "Normal-function direction-control input. See function table for normal-mode logic.", 10 B1 (io) "Normal-function B-bus I/O ports. See function table for normal-mode logic.", 11 B2 (io) "Normal-function B-bus I/O ports. See function table for normal-mode logic.", 12 B3 (io) "Normal-function B-bus I/O ports. See function table for normal-mode logic.", 13 B4 (io) "Normal-function B-bus I/O ports. See function table for normal-mode logic.", 14 GND (power) "Ground", 16 B5 (io) "Normal-function B-bus I/O ports. See function table for normal-mode logic.", 17 B6 (io) "Normal-function B-bus I/O ports. See function table for normal-mode logic.", 18 B7 (io) "Normal-function B-bus I/O ports. See function table for normal-mode logic.", 19 B8 (io) "Normal-function B-bus I/O ports. See function table for normal-mode logic.", 20 TDO (hiz) "Test data output. One of four terminals required by IEEE Standard 1149.1-1990. TDO is the serial output for shifting data through the instruction register or selected data register.", 21 TMS (in) "Test mode select. One of four terminals required by IEEE Standard 1149.1-1990. TMS input directs the device through its TAP controller states. An internal pullup forces TMS to a high level if left unconnected.", 23 TCK (in) "Test clock. One of four terminals required by IEEE Standard 1149.1-1990. Test operations of the device are synchronous to TCK. Data is captured on the rising edge of TCK and outputs change on the falling edge of TCK.", 24 TDI (in) "Test data input. One of four terminals required by IEEE Standard 1149.1-1990. TDI is the serial input for shifting data through the instruction register or selected data register. An internal pullup forces TDI to a high (See Datasheet)", 25 A8 (io) "Normal-function A-bus I/O ports. See function table for normal-mode logic.", 26 A7 (io) "Normal-function A-bus I/O ports. See function table for normal-mode logic.", 27 A6 (io) "Normal-function A-bus I/O ports. See function table for normal-mode logic.", 28 VCC (power) "Supply voltage"
part B pins: 1 NC "No internal connection", 8 NC "No internal connection", 15 NC "No internal connection", 22 NC "No internal connection"

## SNJ54BCT8245AJT
designator U?
Scan Test Devices With Octal Bus Transceivers, JT0024A, TUBE; Generic Part Number: SN54BCT8245A; Manufacturer: Texas Instruments; PartNumber: SNJ54BCT8245AJT; VCC(Min)(V): 4.5; VCC(Max)(V): 5.5; Output Type: TTL; ICC @ Nom Voltage(Max)(mA): 52; Bits(#): 8; Rating: Military; Technology Family: BCT; Output Drive (IOL/IOH)(Max)(mA): 64/-15; Output Logic: True; tpd @ Nom Voltage(Max)(ns): 10; DatasheetVersion: SCBS043E; PackageReference: JT0024A; Input Type: TTL; Operating Temperature Range(C): -55 to 125; ComponentLink1Description: Manufacturer URL; ComponentLink1URL: http://www.ti.com/; ComponentLink2Description: Datasheet; ComponentLink2URL: http://www.ti.com/lit/ds/symlink/sn54bct8245a.pdf
footprint JT0024A (DIP, 24-Leads, Body 7.2x32.5mm, Pitch 2.54mm)
pins: 1 DIR (in) "Normal-function direction-control input. See function table for normal-mode logic.", 2 B1 (io) "Normal-function B-bus I/O ports. See function table for normal-mode logic.", 3 B2 (io) "Normal-function B-bus I/O ports. See function table for normal-mode logic.", 4 B3 (io) "Normal-function B-bus I/O ports. See function table for normal-mode logic.", 5 B4 (io) "Normal-function B-bus I/O ports. See function table for normal-mode logic.", 6 GND (power) "Ground", 7 B5 (io) "Normal-function B-bus I/O ports. See function table for normal-mode logic.", 8 B6 (io) "Normal-function B-bus I/O ports. See function table for normal-mode logic.", 9 B7 (io) "Normal-function B-bus I/O ports. See function table for normal-mode logic.", 10 B8 (io) "Normal-function B-bus I/O ports. See function table for normal-mode logic.", 11 TDO (hiz) "Test data output. One of four terminals required by IEEE Standard 1149.1-1990. TDO is the serial output for shifting data through the instruction register or selected data register.", 12 TMS (in) "Test mode select. One of four terminals required by IEEE Standard 1149.1-1990. TMS input directs the device through its TAP controller states. An internal pullup forces TMS to a high level if left unconnected.", 13 TCK (in) "Test clock. One of four terminals required by IEEE Standard 1149.1-1990. Test operations of the device are synchronous to TCK. Data is captured on the rising edge of TCK and outputs change on the falling edge of TCK.", 14 TDI (in) "Test data input. One of four terminals required by IEEE Standard 1149.1-1990. TDI is the serial input for shifting data through the instruction register or selected data register. An internal pullup forces TDI to a high (See Datasheet)", 15 A8 (io) "Normal-function A-bus I/O ports. See function table for normal-mode logic.", 16 A7 (io) "Normal-function A-bus I/O ports. See function table for normal-mode logic.", 17 A6 (io) "Normal-function A-bus I/O ports. See function table for normal-mode logic.", 18 VCC (power) "Supply voltage", 19 A5 (io) "Normal-function A-bus I/O ports. See function table for normal-mode logic.", 20 A4 (io) "Normal-function A-bus I/O ports. See function table for normal-mode logic.", 21 A3 (io) "Normal-function A-bus I/O ports. See function table for normal-mode logic.", 22 A2 (io) "Normal-function A-bus I/O ports. See function table for normal-mode logic.", 23 A1 (io) "Normal-function A-bus I/O ports. See function table for normal-mode logic.", 24 ~{OE} (in) "Normal-function output-enable input. See function table for normal-mode logic."

## SNJ54BCT8373AFK
designator U?
Scan Test Devices With Octal D-type Latches, FK0028A, TUBE; Generic Part Number: SN54BCT8373A; Manufacturer: Texas Instruments; PartNumber: SNJ54BCT8373AFK; VCC(Min)(V): 4.5; VCC(Max)(V): 5.5; Output Type: TTL; ICC @ Nom Voltage(Max)(mA): 52; Bits(#): 8; Rating: Military; Technology Family: BCT; Output Drive (IOL/IOH)(Max)(mA): 64/-15; Output Logic: True; tpd @ Nom Voltage(Max)(ns): 9.5; DatasheetVersion: SCBS044F; PackageReference: FK0028A; Input Type: TTL; Operating Temperature Range(C): -55 to 125; Code_JEDEC: MS-004; ComponentLink1Description: Manufacturer URL; ComponentLink1URL: http://www.ti.com/; ComponentLink2Description: Datasheet; ComponentLink2URL: http://www.ti.com/lit/ds/symlink/sn54bct8373a.pdf; ComponentLink3Description: Package Specification; ComponentLink3URL: http://www.ti.com/lit/ml/mlcc006d/mlcc006d.pdf
footprint FD0028A_N (LCC, 28-Leads, Body 11.43x11.43mm, Pitch 1.27mm, IPC Medium Density)
footprint FD0028A_M (LCC, 28-Leads, Body 11.43x11.43mm, Pitch 1.27mm, IPC Low Density)
footprint FD0028A_L (LCC, 28-Leads, Body 11.43x11.43mm, Pitch 1.27mm, IPC High Density)
part A pins: 2 5D (in) "Normal-function data inputs. See function table for normal-mode logic. Internal pullups force these inputs to a high level if left unconnected.", 3 4D (in) "Normal-function data inputs. See function table for normal-mode logic. Internal pullups force these inputs to a high level if left unconnected.", 4 3D (in) "Normal-function data inputs. See function table for normal-mode logic. Internal pullups force these inputs to a high level if left unconnected.", 5 2D (in) "Normal-function data inputs. See function table for normal-mode logic. Internal pullups force these inputs to a high level if left unconnected.", 6 1D (in) "Normal-function data inputs. See function table for normal-mode logic. Internal pullups force these inputs to a high level if left unconnected.", 7 ~{OE} (in) "Normal-function output-enable input. See function table for normal-mode logic. An internal pullup forces O\E\ to a high level if left unconnected.", 9 LE (in) "Normal-function latch-enable input. See function table for normal-mode logic. An internal pullup forces LE to a high level if left unconnected.", 10 1Q (hiz) "Normal-function data outputs. See function table for normal-mode logic.", 11 2Q (hiz) "Normal-function data outputs. See function table for normal-mode logic.", 12 3Q (hiz) "Normal-function data outputs. See function table for normal-mode logic.", 13 4Q (hiz) "Normal-function data outputs. See function table for normal-mode logic.", 14 GND (power) "Ground", 16 5Q (hiz) "Normal-function data outputs. See function table for normal-mode logic.", 17 6Q (hiz) "Normal-function data outputs. See function table for normal-mode logic.", 18 7Q (hiz) "Normal-function data outputs. See function table for normal-mode logic.", 19 8Q (hiz) "Normal-function data outputs. See function table for normal-mode logic.", 20 TDO (hiz) "Test data output. One of four terminals required by IEEE Standard 1149.1-1990. TDO is the serial output for shifting data through the instruction register or selected data register. An internal pullup forces TDO to a high (See Datasheet)", 21 TMS (in) "Test mode select. One of four terminals required by IEEE Standard 1149.1-1990. TMS directs the device through its TAP controller states. An internal pullup forces TMS to a high level if left unconnected. The TMS pin also (See Datasheet)", 23 TCK (in) "Test clock. One of four terminals required by IEEE Standard 1149.1-1990. Test operations of the device are synchronous to TCK. Data is captured on the rising edge of TCK and outputs change on the falling edge of TCK. An (See Datasheet)", 24 TDI (in) "Test data input. One of four terminals required by IEEE Standard 1149.1-1990. TDI is the serial input for shifting data through the instruction register or selected data register. An internal pullup forces TDI to a high (See Datasheet)", 25 8D (in) "Normal-function data inputs. See function table for normal-mode logic. Internal pullups force these inputs to a high level if left unconnected.", 26 7D (in) "Normal-function data inputs. See function table for normal-mode logic. Internal pullups force these inputs to a high level if left unconnected.", 27 6D (in) "Normal-function data inputs. See function table for normal-mode logic. Internal pullups force these inputs to a high level if left unconnected.", 28 VCC (power) "Supply voltage"
part B pins: 1 NC "No internal connection", 8 NC "No internal connection", 15 NC "No internal connection", 22 NC "No internal connection"

## SNJ54BCT8373AJT
designator U?
Scan Test Devices With Octal D-type Latches, JT0024A, TUBE; Generic Part Number: SN54BCT8373A; Manufacturer: Texas Instruments; PartNumber: SNJ54BCT8373AJT; VCC(Min)(V): 4.5; VCC(Max)(V): 5.5; Output Type: TTL; ICC @ Nom Voltage(Max)(mA): 52; Bits(#): 8; Rating: Military; Technology Family: BCT; Output Drive (IOL/IOH)(Max)(mA): 64/-15; Output Logic: True; tpd @ Nom Voltage(Max)(ns): 9.5; DatasheetVersion: SCBS044F; PackageReference: JT0024A; Input Type: TTL; Operating Temperature Range(C): -55 to 125; ComponentLink1Description: Manufacturer URL; ComponentLink1URL: http://www.ti.com/; ComponentLink2Description: Datasheet; ComponentLink2URL: http://www.ti.com/lit/ds/symlink/sn54bct8373a.pdf
footprint JT0024A (DIP, 24-Leads, Body 7.2x32.5mm, Pitch 2.54mm)
pins: 1 LE (in) "Normal-function latch-enable input. See function table for normal-mode logic. An internal pullup forces LE to a high level if left unconnected.", 2 1Q (hiz) "Normal-function data outputs. See function table for normal-mode logic", 3 2Q (hiz) "Normal-function data outputs. See function table for normal-mode logic", 4 3Q (hiz) "Normal-function data outputs. See function table for normal-mode logic", 5 4Q (hiz) "Normal-function data outputs. See function table for normal-mode logic", 6 GND (power) "Ground", 7 5Q (hiz) "Normal-function data outputs. See function table for normal-mode logic", 8 6Q (hiz) "Normal-function data outputs. See function table for normal-mode logic", 9 7Q (hiz) "Normal-function data outputs. See function table for normal-mode logic", 10 8Q (hiz) "Normal-function data outputs. See function table for normal-mode logic", 11 TDO (hiz) "Test data output. One of four terminals required by IEEE Standard 1149.1-1990. TDO is the serial output for shifting data through the instruction register or selected data register. An internal pullup forces TDO to a high (See Datasheet)", 12 TMS (in) "Test mode select. One of four terminals required by IEEE Standard 1149.1-1990. TMS directs the device through its TAP controller states. An internal pullup forces TMS to a high level if left unconnected. The TMS pin also (See Datasheet)", 13 TCK (in) "Test clock. One of four terminals required by IEEE Standard 1149.1-1990. Test operations of the device are synchronous to TCK. Data is captured on the rising edge of TCK and outputs change on the falling edge of TCK. An (See Datasheet)", 14 TDI (in) "Test data input. One of four terminals required by IEEE Standard 1149.1-1990. TDI is the serial input for shifting data through the instruction register or selected data register. An internal pullup forces TDI to a high (See Datasheet)", 15 8D (in) "Normal-function data inputs. See function table for normal-mode logic. Internal pullups force these inputs to a high level if left unconnected.", 16 7D (in) "Normal-function data inputs. See function table for normal-mode logic. Internal pullups force these inputs to a high level if left unconnected.", 17 6D (in) "Normal-function data inputs. See function table for normal-mode logic. Internal pullups force these inputs to a high level if left unconnected.", 18 VCC (power) "Supply voltage", 19 5D (in) "Normal-function data inputs. See function table for normal-mode logic. Internal pullups force these inputs to a high level if left unconnected.", 20 4D (in) "Normal-function data inputs. See function table for normal-mode logic. Internal pullups force these inputs to a high level if left unconnected.", 21 3D (in) "Normal-function data inputs. See function table for normal-mode logic. Internal pullups force these inputs to a high level if left unconnected.", 22 2D (in) "Normal-function data inputs. See function table for normal-mode logic. Internal pullups force these inputs to a high level if left unconnected.", 23 1D (in) "Normal-function data inputs. See function table for normal-mode logic. Internal pullups force these inputs to a high level if left unconnected.", 24 ~{OE} (in) "Normal-function output-enable input. See function table for normal-mode logic. An internal pullup forces O\E\ to a high level if left unconnected."